# Altium footprint library MB1842.PcbLib: 31 footprints (part 1 of 2)
Each footprint in its own frame and in the unit in brackets; x right, y up, seen from the top. Pads: shape width x height; smd on the part's side, far side on the other; paste and mask are expansions set on the pad; w line width, h text height; cw(c..) or ccw(c..) is an arc to the next point about the centre after c.
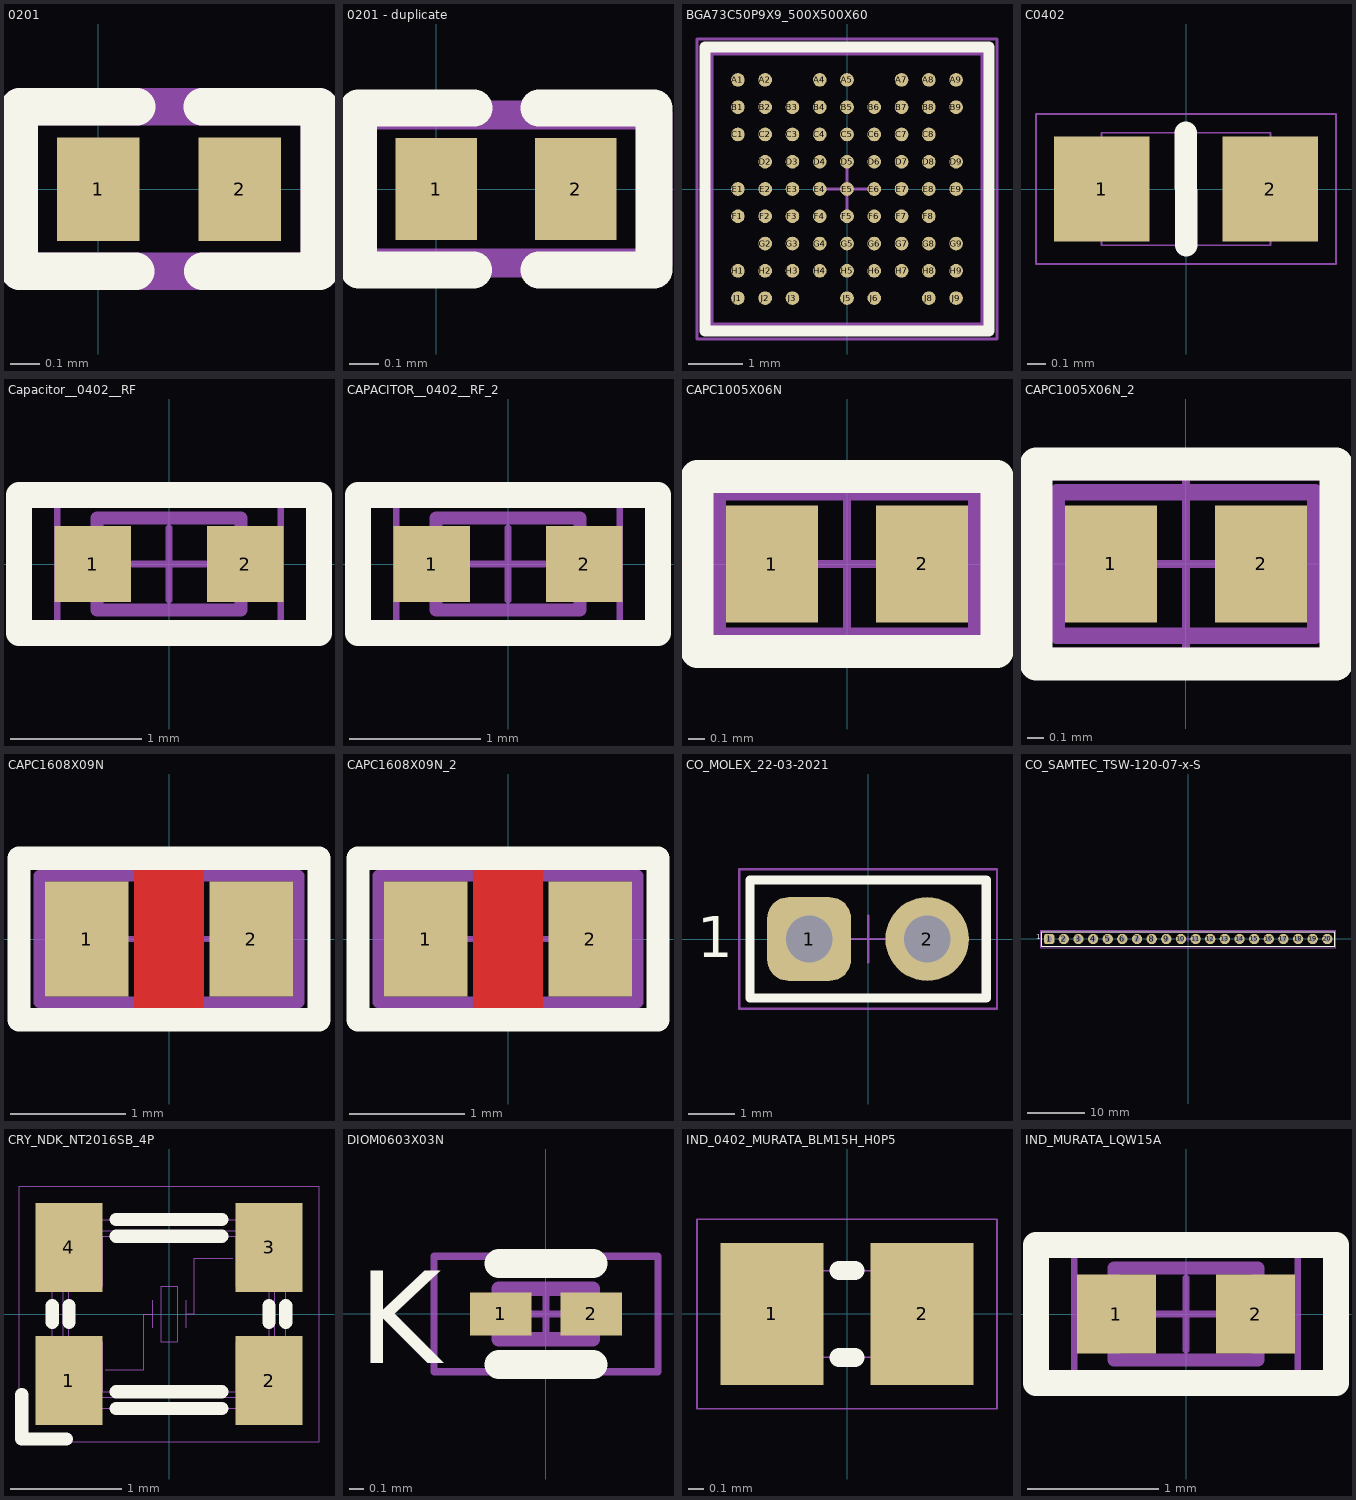
[diagram p0: the footprints below, top view; thin cyan lines are the x and y axes]

## 0201 [mm]
pads (2):
  rect 0.28x0.35 smd: 1(0,0) 2(0.48,0)
Top Overlay:
  lines w0.127: -0.268,0.279 0.13,0.279 ; -0.267,0.273 -0.267,-0.278 0.128,-0.278 ; 0.353,0.279 0.748,0.279 0.748,-0.278 0.354,-0.278
Top Assembly (Mech14):
  lines w0.127: -0.268,0.279 0.353,0.279 0.748,0.279 0.748,-0.278 0.354,-0.278 -0.267,-0.278 -0.267,0.273
  text ".Designator" at -3.209,0.498 h1.25
3D body "User Library-Chip Cap_MLCC_0201 (0603).step": height 0.3, standoff 0, extent -0.062,-0.149 0.538,0.151

## 0201 - duplicate [mm]
pads (2):
  rect 0.28x0.35 smd: 1(0,0) 2(0.48,0)
Top Overlay:
  lines w0.127: -0.268,0.279 0.13,0.279 ; -0.267,0.273 -0.267,-0.278 0.128,-0.278 ; 0.353,0.279 0.748,0.279 0.748,-0.278 0.354,-0.278
Top Assembly:
  lines w0.1: -0.254,-0.254 0.762,-0.254 0.762,0.254 -0.254,0.254 -0.254,-0.254
  text ".Designator" at -0.44,-0.035 h1.25
3D body "User Library-Chip Cap_MLCC_0201 (0603).step": height 0.3, standoff 0, extent -0.062,-0.149 0.538,0.151

## BGA73C50P9X9_500X500X60 [mm] "BGA, 73-Leads, Body 5.00x5.00mmx0.60mm, Pitch 0.50mm"
height 0.6
pads (73):
  round 0.25 smd mask+0.05: A1(-2,2) A2(-1.5,2) A4(-0.5,2) A5(0,2) A7(1,2) A8(1.5,2) A9(2,2) B1(-2,1.5) B2(-1.5,1.5) B3(-1,1.5) B4(-0.5,1.5) B5(0,1.5) B6(0.5,1.5) B7(1,1.5) B8(1.5,1.5) B9(2,1.5) C1(-2,1) C2(-1.5,1) C3(-1,1) C4(-0.5,1) C5(0,1) C6(0.5,1) C7(1,1) C8(1.5,1) D2(-1.5,0.5) D3(-1,0.5) D4(-0.5,0.5) D5(0,0.5) D6(0.5,0.5) D7(1,0.5) D8(1.5,0.5) D9(2,0.5) E1(-2,0) E2(-1.5,0) E3(-1,0) E4(-0.5,0) E5(0,0) E6(0.5,0) E7(1,0) E8(1.5,0) E9(2,0) F1(-2,-0.5) F2(-1.5,-0.5) F3(-1,-0.5) F4(-0.5,-0.5) F5(0,-0.5) F6(0.5,-0.5) F7(1,-0.5) F8(1.5,-0.5) G2(-1.5,-1) G3(-1,-1) G4(-0.5,-1) G5(0,-1) G6(0.5,-1) G7(1,-1) G8(1.5,-1) G9(2,-1) H1(-2,-1.5) H2(-1.5,-1.5) H3(-1,-1.5) H4(-0.5,-1.5) H5(0,-1.5) H6(0.5,-1.5) H7(1,-1.5) H8(1.5,-1.5) H9(2,-1.5) J1(-2,-2) J2(-1.5,-2) J3(-1,-2) J5(0,-2) J6(0.5,-2) J8(1.5,-2) J9(2,-2)
Top Overlay:
  lines w0.2: -2.6,-2.6 -2.6,2.6 2.6,2.6 2.6,-2.6 -2.6,-2.6
  text "." at -3.21,3.04 h4
Top Solder:
  region: -2.2,2.2 -1.3,2.2 -1.3,1.7 -0.7,1.7 -0.7,2.2 0.2,2.2 0.2,1.7 0.8,1.7 0.8,2.2 2.2,2.2 2.2,1.3 1.7,1.3 1.7,0.7 2.2,0.7 2.2,-0.2 1.7,-0.2 1.7,-0.8 2.2,-0.8 2.2,-2.2 1.3,-2.2 1.3,-1.7 0.7,-1.7 0.7,-2.2 -0.2,-2.2 -0.2,-1.7 -0.8,-1.7 -0.8,-2.2 -2.2,-2.2 -2.2,-1.3 -1.7,-1.3 -1.7,-0.7 -2.2,-0.7 -2.2,0.2 -1.7,0.2 -1.7,0.8 -2.2,0.8
Top Assembly (Mech14):
  lines w0.1: -2.5,-2.5 2.5,-2.5 2.5,2.5 -2.5,2.5 -2.5,-2.5
  text ".Designator" at -0.5,0.5 h1.25
  text "." at -2.2,2.199 h4
Mechanical 17:
  lines w0.05: -0.5,0 0.5,0 ; 0,-0.5 0,0.5 ; -2.75,-2.75 2.75,-2.75 2.75,2.75 -2.75,2.75 -2.75,-2.75
3D body "BGA73C50P9X9_500X500X60.step": height 0.6, standoff 0, extent -2.5,-2.5 2.5,2.5

## C0402 [mm]
pads (2):
  rect 0.51x0.56 smd mask+0.05: 1(-0.45,0) 2(0.45,0)
Top Overlay:
  lines w0.12: 0,-0.3 0,0.3
Top Assembly (Mech14):
  lines w0.01: -0.45,-0.3 -0.45,0.3 0.45,0.3 0.45,-0.3 -0.45,-0.3
  text "'.Designator'" at -2,-0.5 h0.75
Mechanical 16:
  lines w0.01: -0.8,-0.4 0.8,-0.4 0.8,0.4 -0.8,0.4 -0.8,-0.4
3D body: height 0.4, standoff 0, extent -0.455,-0.305 0.455,0.305
3D body "C0402.STEP": height 0.36, standoff 0, extent -0.5,-0.265 0.5,0.265

## Capacitor__0402__RF [mm] "Inductor 2-Leads,Body 1.10x0.70x0.60mm(max)"
height 0.6
pads (2):
  rect 0.582x0.582 smd: 1(-0.58,0) 2(0.58,0)
Top Overlay:
  lines w0.2: -1.143,-0.525 1.143,-0.525 1.143,0.525 -1.143,0.525 -1.143,-0.525
Top Assembly (Mech14):
  lines w0.1: -0.55,-0.35 -0.55,0.35 0.55,0.35 0.55,-0.35 -0.55,-0.35
  text ".Designator" at 1.05,-0.45 h1.25
Mechanical 17:
  lines w0.05: -0.275,0 0.275,0 ; 0,-0.275 0,0.275 ; -0.85,-0.575 0.85,-0.575 0.85,0.575 -0.85,0.575 -0.85,-0.575
3D body "CAPC1005X06.step": height 0.6, standoff 0, extent -0.5,-0.25 0.5,0.25

## CAPACITOR__0402__RF_2 [mm]
pads (2):
  rect 0.582x0.582 smd: 1(-0.58,0) 2(0.58,0)
Top Overlay:
  lines w0.2: -1.143,-0.525 1.143,-0.525 1.143,0.525 -1.143,0.525 -1.143,-0.525
Top Assembly (Mech14):
  lines w0.1: -0.55,-0.35 -0.55,0.35 0.55,0.35 0.55,-0.35 -0.55,-0.35
  text ".Designator" at 1.05,-0.45 h1.25
Mechanical 17:
  lines w0.05: -0.275,0 0.275,0 ; 0,-0.275 0,0.275 ; -0.85,-0.575 0.85,-0.575 0.85,0.575 -0.85,0.575 -0.85,-0.575
3D body "CAPC1005X06.step": height 0.6, standoff 0, extent -0.5,-0.25 0.5,0.25

## CAPC1005X06N [mm] "Chip Capacitor, 2-Leads, Body 1.00x0.50x0.60mm (0402)"
height 0.6
pads (2):
  rect 0.55x0.7 smd: 1(-0.45,0) 2(0.45,0)
Top Overlay:
  lines w0.2: -0.9,-0.525 -0.9,0.525 0.9,0.525 0.9,-0.525 -0.9,-0.525
Top Assembly (Mech14):
  lines w0.1: -0.775,-0.43 -0.775,0.43 0.775,0.43 0.775,-0.43 -0.775,-0.43
  text ".Designator" at -0.887,0.653 h1
Mechanical 17:
  lines w0.05: -0.5,0 0.5,0 ; 0,-0.5 0,0.5 ; -0.9,-0.525 0.9,-0.525 0.9,0.525 -0.9,0.525 -0.9,-0.525
3D body "CAPC1005X06.step": height 0.6, standoff 0, extent -0.5,-0.25 0.5,0.25

## CAPC1005X06N_2 [mm]
pads (2):
  rect 0.55x0.7 smd: 1(-0.45,0) 2(0.45,0)
Top Overlay:
  lines w0.2: -0.9,-0.6 -0.9,0.6 0.9,0.6 0.9,-0.6 -0.9,-0.6
Top Assembly (Mech14):
  lines w0.1: -0.775,-0.43 -0.775,0.43 0.775,0.43 0.775,-0.43 -0.775,-0.43
  text ".Designator" at -2.35,-0.35 h1.25
Mechanical 17:
  lines w0.05: -0.5,0 0.5,0 ; 0,-0.5 0,0.5 ; -0.9,-0.525 -0.9,0.525 0.9,0.525 0.9,-0.525 -0.9,-0.525
3D body "CAPC1005X06.step": height 0.6, standoff 0, extent -0.5,-0.25 0.5,0.25

## CAPC1608X09N [mm] "Chip Capacitor, 2-Leads, Body 1.60x0.80x0.90mm (0603)"
height 0.9
pads (2):
  rect 0.725x1 smd: 1(-0.713,0) 2(0.713,0)
Top Layer:
  pour cut-out: -0.3,0.7 0.3,0.7 0.3,-0.7 -0.3,-0.7
Top Overlay:
  lines w0.2: -1.3,-0.7 -1.3,0.7 1.3,0.7 1.3,-0.7 -1.3,-0.7
Top Assembly (Mech14):
  lines w0.1: -1.125,-0.55 1.125,-0.55 1.125,0.55 -1.125,0.55 -1.125,-0.55
  text ".Designator" at 0.65,0.4 h1.25
Mechanical 17:
  lines w0.05: -0.5,0 0.5,0 ; 0,-0.5 0,0.5 ; -1.3,-0.7 1.3,-0.7 1.3,0.7 -1.3,0.7 -1.3,-0.7
3D body "CAPC1608X09.step": height 0.9, standoff 0, extent -0.8,-0.4 0.8,0.4

## CAPC1608X09N_2 [mm]
pads (2):
  rect 0.725x1 smd: 1(-0.713,0) 2(0.713,0)
Top Layer:
  pour cut-out: -0.3,0.7 0.3,0.7 0.3,-0.7 -0.3,-0.7
Top Overlay:
  lines w0.2: -1.3,-0.7 -1.3,0.7 1.3,0.7 1.3,-0.7 -1.3,-0.7
Top Assembly (Mech14):
  lines w0.1: -1.125,-0.55 1.125,-0.55 1.125,0.55 -1.125,0.55 -1.125,-0.55
  text ".Designator" at 0.65,0.4 h1.25
Mechanical 17:
  lines w0.05: -0.5,0 0.5,0 ; 0,-0.5 0,0.5 ; -1.3,-0.7 1.3,-0.7 1.3,0.7 -1.3,0.7 -1.3,-0.7
3D body "CAPC1608X09.step": height 0.9, standoff 0, extent -0.8,-0.4 0.8,0.4

## CO_MOLEX_22-03-2021 [mm]
height 10.8
pads (2):
  rrect50% 1.8x1.8 hole 1: 1(-1.27,0)
  round 1.8 hole 1: 2(1.27,0)
Top Overlay:
  lines w0.2: -2.54,-1.27 2.54,-1.27 2.54,1.27 -2.54,1.27 -2.54,-1.27
  text "1" at -3.68,-0.686 h1.5
Top Assembly (Mech14):
  lines w0.1: -2.54,-1.27 2.54,-1.27 2.54,1.27 -2.54,1.27 -2.54,-1.27
  text "1" at -1.6,-1.85 h1.25
  text ".Designator" at 0.4,-0.55 h1.25
Mechanical 17:
  lines w0.05: -0.5,0 0.5,0 ; 0,-0.5 0,0.5 ; -2.77,-1.5 -2.77,1.5 2.77,1.5 2.77,-1.5 -2.77,-1.5
3D body "022032021.stp": height 10.79, standoff -3.43, extent -2.413,-1.181 2.413,1.181

## CO_SAMTEC_TSW-120-07-x-S [mm] "Header, 20-Leads, 50.80x2.54x10.80mm, Pitch 2.54mm"
height 10.8
pads (20):
  rrect50% 1.8x1.8 hole 1: 1(-24.13,0)
  round 1.8 hole 1: 2(-21.59,0) 3(-19.05,0) 4(-16.51,0) 5(-13.97,0) 6(-11.43,0) 7(-8.89,0) 8(-6.35,0) 9(-3.81,0) 10(-1.27,0) 11(1.27,0) 12(3.81,0) 13(6.35,0) 14(8.89,0) 15(11.43,0) 16(13.97,0) 17(16.51,0) 18(19.05,0) 19(21.59,0) 20(24.13,0)
Top Overlay:
  lines w0.2: -25.4,-1.27 -25.4,1.27 25.4,1.27 25.4,-1.27 -25.4,-1.27
  text "1" at -26.416,-0.381 h1.5
Top Assembly (Mech14):
  lines w0.1: -25.4,-1.27 -25.4,1.27 25.4,1.27 25.4,-1.27 -25.4,-1.27
  text ".Designator" at -0.1,-0.45 h1.5
  text "1" at -26.416,-0.381 h1.5
Mechanical 17:
  lines w0.05: -0.5,0 0.5,0 ; 0,-0.5 0,0.5 ; -25.63,-1.52 25.63,-1.52 25.63,1.52 -25.63,1.52 -25.63,-1.52
3D body "SAMTEC_TSW-120-07-G-S.stp": height 8.38, standoff -2.54, extent -25.464,-1.27 25.463,1.27

## CRY_NDK_NT2016SB_4P [mm] "MCD-01492"
height 0.8
pads (4):
  rect 0.6x0.8 smd mask+0.05: 1(-0.9,-0.6) 2(0.9,-0.6) 3(0.9,0.6) 4(-0.9,0.6)
Top Overlay:
  lines w0.12: -1.325,-0.725 -1.325,-1.125 -0.925,-1.125 ; -1.05,-0.075 -1.05,0.075 ; -0.9,-0.075 -0.9,0.075 ; -0.475,-0.85 0.475,-0.85 ; -0.475,-0.7 0.475,-0.7 ; -0.475,0.7 0.475,0.7 ; -0.475,0.85 0.475,0.85 ; 0.9,-0.075 0.9,0.075 ; 1.05,-0.075 1.05,0.075
Top Assembly (Mech14):
  lines w0.01: -0.9,-0.25 -0.6,-0.25 -0.6,-0.7 ; -0.9,0.25 -0.6,0.25 -0.6,0.7 ; -0.575,-0.5 -0.225,-0.5 -0.225,0 -0.15,0 ; -0.15,-0.125 -0.15,0.125 ; 0.15,-0.125 0.15,0.125 ; 0.15,0 0.225,0 0.225,0.5 0.575,0.5 ; 0.6,-0.7 0.6,-0.25 0.9,-0.25 ; 0.6,0.7 0.6,0.25 0.9,0.25 ; -1.05,-0.7 cw(c-1.05,-0.85) -0.9,-0.85 0.9,-0.85 cw(c1.05,-0.85) 1.05,-0.7 1.05,0.7 cw(c1.05,0.85) 0.9,0.85 -0.9,0.85 cw(c-1.05,0.85) -1.05,0.7 -1.05,-0.7 ; -0.95,-0.6 ccw(c-0.8,-0.6) -0.8,-0.75 0.8,-0.75 ccw(c0.8,-0.6) 0.95,-0.6 0.95,0.6 ccw(c0.8,0.6) 0.8,0.75 -0.8,0.75 ccw(c-0.8,0.6) -0.95,0.6 -0.95,-0.6 ; -0.9,-0.6 ccw(c-0.8,-0.6) -0.8,-0.7 0.8,-0.7 ccw(c0.8,-0.6) 0.9,-0.6 0.9,0.6 ccw(c0.8,0.6) 0.8,0.7 -0.8,0.7 ccw(c-0.8,0.6) -0.9,0.6 -0.9,-0.6 ; -0.075,-0.25 -0.075,0.25 0.075,0.25 0.075,-0.25 -0.075,-0.25
  text "1" at -0.688,-0.325 h0.5
  text "2" at 0.825,-0.325 h0.5
  text "3" at 0.85,0.637 h0.5
  text "4" at -0.675,0.662 h0.5
  text "'.Designator'" at 1.963,-0.625 h0.75
Mechanical 16:
  lines w0.01: -1.35,-1.15 1.35,-1.15 1.35,1.15 -1.35,1.15 -1.35,-1.15
3D body "NX2016.STEP": height 0.7, standoff 0, extent -1,-0.8 1,0.8
3D body: height 0.81, standoff 0.8, extent -0.9,-0.7 -0.575,-0.375
3D body: height 0.8, standoff 0, extent -1.05,-0.85 1.05,0.85

## DIOM0603X03N [mm] "Molded Diode, 2-Leads, Body 0.60x0.30mm"
height 0.33
pads (2):
  rect 0.425x0.3 smd: 1(-0.312,0) 2(0.313,0)
Top Overlay:
  lines w0.2: -0.325,-0.35 0.325,-0.35 ; -0.325,0.35 0.325,0.35
  text "K" at -1.3,-0.55 h1.1
Top Assembly (Mech14):
  rectangle: -0.325,-0.175 -0.125,0.175
  lines w0.1: -0.325,-0.175 0.325,-0.175 0.325,0.175 -0.325,0.175 -0.325,-0.175
  text "K" at -1.1,-0.45 h1.25
  text ".Designator" at -0.65,0.4 h1.25
Mechanical 17:
  lines w0.05: -0.175,0 0.175,0 ; 0,-0.175 0,0.175 ; -0.775,-0.4 0.775,-0.4 0.775,0.4 -0.775,0.4 -0.775,-0.4
3D body: height 0.33, standoff 0.33, extent -0.3,-0.175 -0.075,0.175
3D body: height 0.33, standoff 0, extent -0.325,-0.175 0.325,0.175

## IND_0402_MURATA_BLM15H_H0P5 [mm]
pads (2):
  rect 0.65x0.9 smd mask+0.05: 1(-0.475,0) 2(0.475,0)
Top Overlay:
  lines w0.12: -0.05,-0.275 0.05,-0.275 ; -0.05,0.275 0.05,0.275
Top Assembly (Mech14):
  lines w0.01: -0.525,-0.275 -0.525,0.275 0.525,0.275 0.525,-0.275 -0.525,-0.275
  text "'.Designator'" at -2,-0.5 h0.75
Mechanical 16:
  lines w0.01: -0.95,-0.6 -0.95,0.525 -0.95,0.6 -0.75,0.6 0.95,0.6 0.95,-0.6 -0.05,-0.6 -0.95,-0.6
3D body "INDC1005X50N.STEP": height 0.5, standoff 0, extent -0.5,-0.25 0.5,0.25
3D body: height 0.55, standoff 0, extent -0.525,-0.275 0.525,0.275

## IND_MURATA_LQW15A [mm]
pads (2):
  rect 0.6x0.6 smd: 1(-0.53,0) 2(0.53,0)
Top Overlay:
  lines w0.2: -1.143,-0.525 1.143,-0.525 1.143,0.525 -1.143,0.525 -1.143,-0.525
Top Assembly (Mech14):
  lines w0.1: -0.55,-0.35 -0.55,0.35 0.55,0.35 0.55,-0.35 -0.55,-0.35
  text ".Designator" at 1.05,-0.45 h1.25
Mechanical 17:
  lines w0.05: -0.275,0 0.275,0 ; 0,-0.275 0,0.275 ; -0.85,-0.575 0.85,-0.575 0.85,0.575 -0.85,0.575 -0.85,-0.575
3D body "IND_MURATA_LQW15AN.step": height 0.51, standoff 0, extent -0.5,-0.3 0.5,0.3